# Altium footprint library Components - 19.05.26 - 20.57.PcbLib: 1 footprints
Each footprint in its own frame and in the unit in brackets; x right, y up, seen from the top. Pads: shape width x height; smd on the part's side, far side on the other; paste and mask are expansions set on the pad; w line width, h text height; cw(c..) or ccw(c..) is an arc to the next point about the centre after c.
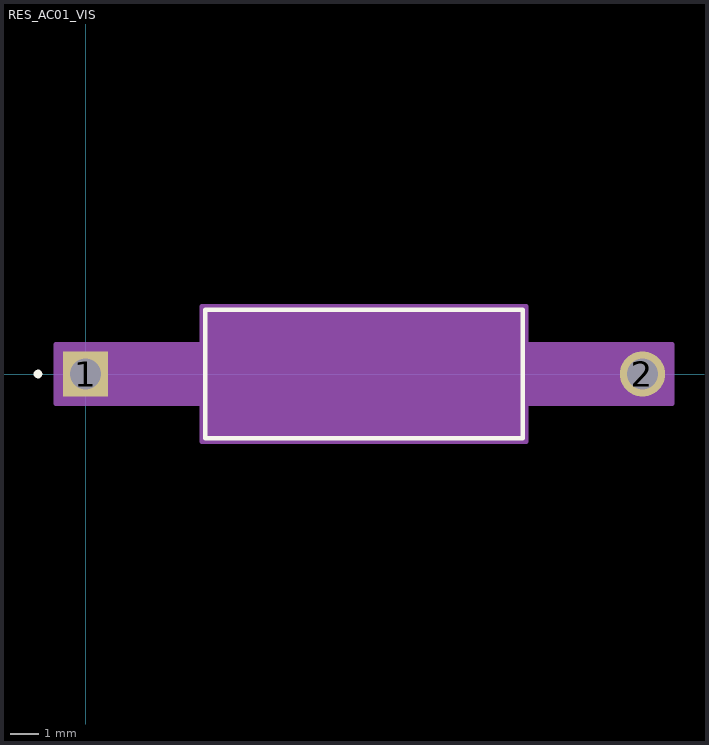
[diagram p0: the footprint, top view; thin cyan lines are the x and y axes]

## RES_AC01_VIS [mil]
pads (2):
  rect 63x63 / inner round 60 / far side rect 63x63 hole 43 paste-99999 mask+0: 1(0,0)
  round 63 / inner round 60 / far side round 63 hole 43 paste-99999 mask+0: 2(777,0)
Top Overlay:
  circle w6: c-66.5,0 r3
  lines w6: 167,-89.5 167,89.5 610,89.5 610,-89.5 167,-89.5
Mechanical 13:
  circle w0: c182,0 r3
  lines w1: 0,0 172,0 ; 605,0 777,0 ; 172,-84.5 172,84.5 605,84.5 605,-84.5 172,-84.5
Mechanical 15:
  region: 162,-41.5 -41.5,-41.5 -41.5,41.5 162,41.5 162,94.5 615,94.5 615,41.5 818.5,41.5 818.5,-41.5 615,-41.5 615,-94.5 162,-94.5
  lines w6: -41.5,-41.5 162,-41.5 162,-94.5 615,-94.5 615,-41.5 818.5,-41.5 818.5,41.5 615,41.5 615,94.5 162,94.5 162,41.5 -41.5,41.5 -41.5,-41.5
3D body "RES_AC01_VIS.step": height 169.06, standoff -100, extent -16.5,-84.14 793.5,84.14